# Altium schematic symbol library Molex44432-1801.SchLib: 1 symbol
Pins are listed as number, name and electrical type; pins without a type are passive.

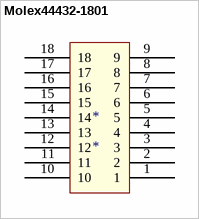
[diagram p0: symbol Molex44432-1801]

## Molex44432-1801
designator *
footprint Molex44432-1801
pins: 1, 2, 3, 4, 5, 6, 7, 8, 9, 10, 11, 12, 13, 14, 15, 16, 17, 18